# Altium footprint library SamacSys.PcbLib: 8 footprints
Each footprint in its own frame and in the unit in brackets; x right, y up, seen from the top. Pads: shape width x height; smd on the part's side, far side on the other; paste and mask are expansions set on the pad; w line width, h text height; cw(c..) or ccw(c..) is an arc to the next point about the centre after c.
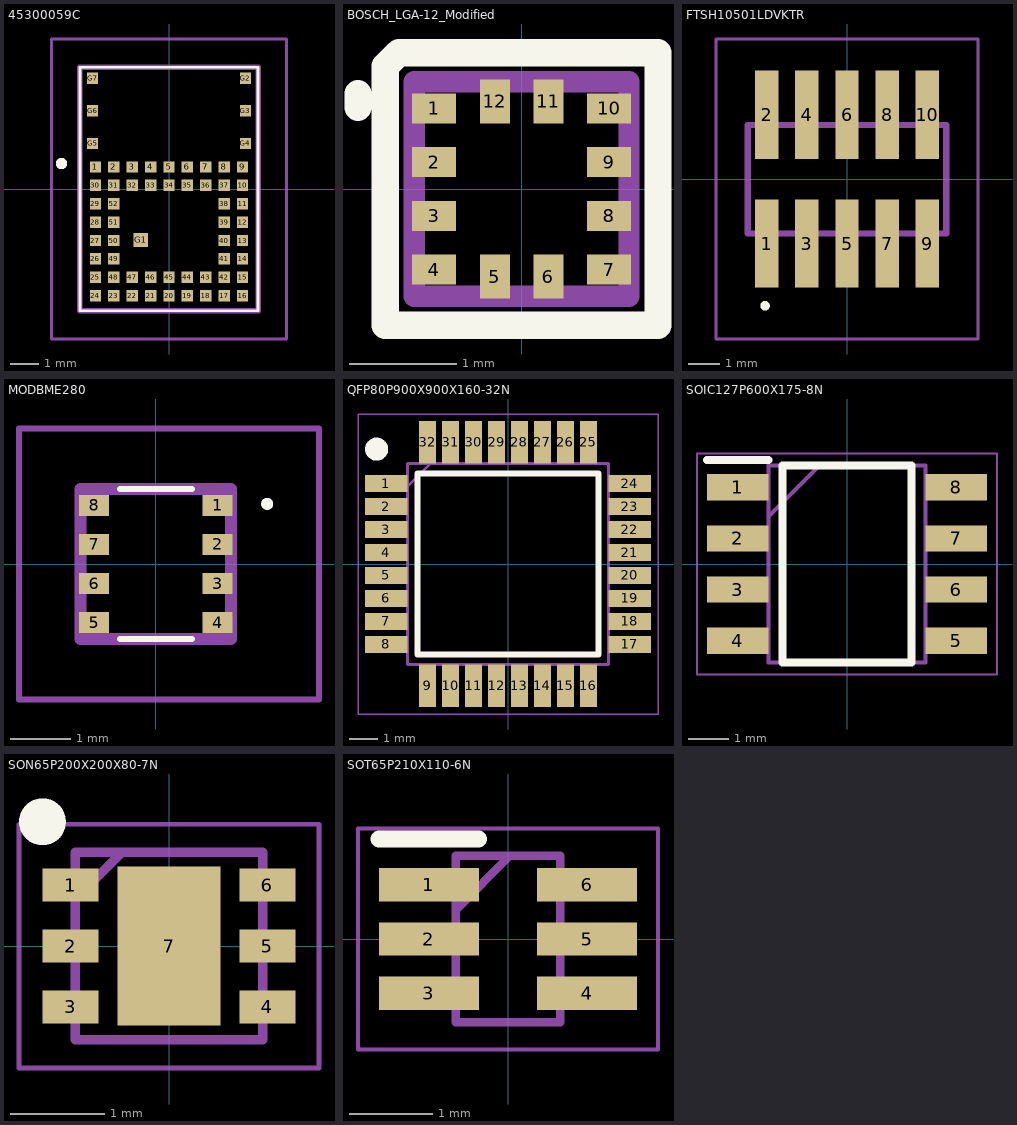
[diagram p0: the footprints below, top view; thin cyan lines are the x and y axes]

## 45300059C [mm]
pads (59):
  rect 0.4x0.4 smd: 1(-2.6,0.78) 2(-1.95,0.78) 3(-1.3,0.78) 4(-0.65,0.78) 5(0,0.78) 6(0.65,0.78) 7(1.3,0.78) 8(1.95,0.78) 9(2.6,0.78) 10(2.6,0.13) 11(2.6,-0.52) 12(2.6,-1.17) 13(2.6,-1.82) 14(2.6,-2.47) 15(2.6,-3.12) 16(2.6,-3.77) 17(1.95,-3.77) 18(1.3,-3.77) 19(0.65,-3.77) 20(0,-3.77) 21(-0.65,-3.77) 22(-1.3,-3.77) 23(-1.95,-3.77) 24(-2.6,-3.77) 25(-2.6,-3.12) 26(-2.6,-2.47) 27(-2.6,-1.82) 28(-2.6,-1.17) 29(-2.6,-0.52) 30(-2.6,0.13) 31(-1.95,0.13) 32(-1.3,0.13) 33(-0.65,0.13) 34(0,0.13) 35(0.65,0.13) 36(1.3,0.13) 37(1.95,0.13) 38(1.95,-0.52) 39(1.95,-1.17) 40(1.95,-1.82) 41(1.95,-2.47) 42(1.95,-3.12) 43(1.3,-3.12) 44(0.65,-3.12) 45(0,-3.12) 46(-0.65,-3.12) 47(-1.3,-3.12) 48(-1.95,-3.12) 49(-1.95,-2.47) 50(-1.95,-1.82) 51(-1.95,-1.17) 52(-1.95,-0.52) G2(2.7,3.91) G3(2.7,2.76) G4(2.7,1.61) G5(-2.7,1.61) G6(-2.7,2.76) G7(-2.7,3.91)
  rect 0.5x0.5 smd: G1(-1,-1.8)
Top Overlay:
  lines w0.1: -3.15,-4.3 -3.15,4.3 3.15,4.3 3.15,-4.3 -3.15,-4.3
  lines w0.2: -3.8,0.8 ccw(c-3.8,0.9) -3.8,1 ccw(c-3.8,0.9) -3.8,0.8
Mechanical 13:
  lines w0.2: -3.15,-4.3 -3.15,4.3 3.15,4.3 3.15,-4.3 -3.15,-4.3
Mechanical 15:
  lines w0.1: -4.15,-5.3 4.15,-5.3 ; -4.15,-5.3 -4.15,5.3 ; -4.15,-5.3 4.15,-5.3 ; -4.15,-5.3 -4.15,5.3 ; -4.15,5.3 4.15,5.3 ; -4.15,5.3 4.15,5.3 ; 4.15,-5.3 4.15,5.3 ; 4.15,-5.3 4.15,5.3
3D body "453-00059C.stp": height 1.7, standoff 0, extent -3.15,-4.3 3.15,4.3

## BOSCH_LGA-12_Modified [mm]
pads (12):
  rect 0.41x0.28 smd: 1(-0.815,0.75) 2(-0.815,0.25) 3(-0.815,-0.25) 4(-0.815,-0.75) 7(0.815,-0.75) 8(0.815,-0.25) 9(0.815,0.25) 10(0.815,0.75)
  rect 0.28x0.41 smd: 5(-0.25,-0.815) 6(0.25,-0.815) 11(0.25,0.815) 12(-0.25,0.815)
Top Overlay:
  lines w0.254: -1.524,0.762 -1.524,0.889 ; -1.27,-1.27 -1.27,1.143 -1.143,1.27 1.27,1.27 1.27,-1.27 -1.27,-1.27
Mechanical 13:
  lines w0.2: -1,-1 1,-1 1,1 -1,1 -1,-1
3D body "BMA456.stp": height 1.02, standoff 0.02, extent -0.873,-1 1.127,1

## FTSH10501LDVKTR [mm]
pads (10):
  rect 0.74x2.79 smd: 1(-2.54,-2.035) 2(-2.54,2.035) 3(-1.27,-2.035) 4(-1.27,2.035) 5(0,-2.035) 6(0,2.035) 7(1.27,-2.035) 8(1.27,2.035) 9(2.54,-2.035) 10(2.54,2.035)
Top Overlay:
  lines w0.2: -2.64,-4 cw(c-2.59,-4) -2.54,-4 cw(c-2.59,-4) -2.64,-4
Mechanical 13:
  lines w0.2: -3.135,-1.715 3.135,-1.715 3.135,1.715 -3.135,1.715 -3.135,-1.715
Mechanical 15:
  lines w0.1: -4.135,-5.05 4.135,-5.05 4.135,4.43 -4.135,4.43 -4.135,-5.05
3D body "FTSH-105-01-L-DV-K-TR.stp": height 6.15, standoff 0, extent -3.135,-3.356 3.135,3.356

## MODBME280 [mm]
pads (8):
  rect 0.5x0.35 smd: 1(1.025,0.975) 2(1.025,0.325) 3(1.025,-0.325) 4(1.025,-0.975) 5(-1.025,-0.975) 6(-1.025,-0.325) 7(-1.025,0.325) 8(-1.025,0.975)
Top Overlay:
  lines w0.1: -0.6,-1.25 0.6,-1.25 ; -0.6,1.25 0.6,1.25 ; 1.8,1 cw(c1.85,1) 1.9,1 cw(c1.85,1) 1.8,1
Mechanical 13:
  lines w0.2: -1.25,-1.25 -1.25,1.25 1.25,1.25 1.25,-1.25 -1.25,-1.25
Mechanical 15:
  lines w0.1: -2.275,-2.25 -2.275,2.25 ; -2.275,-2.25 2.712,-2.25 ; -2.275,-2.25 -2.275,2.25 ; -2.275,-2.25 2.712,-2.25 ; -2.275,2.25 2.712,2.25 ; -2.275,2.25 2.712,2.25 ; 2.712,-2.25 2.712,2.25 ; 2.712,-2.25 2.712,2.25
3D body "MOD-BME280.stp": height 0.93, standoff 0, extent -1.25,-1.25 1.25,1.25

## QFP80P900X900X160-32N [mm]
pads (32):
  rect 1.475x0.6 smd: 1(-4.238,2.8) 2(-4.238,2) 3(-4.238,1.2) 4(-4.238,0.4) 5(-4.238,-0.4) 6(-4.238,-1.2) 7(-4.238,-2) 8(-4.238,-2.8) 17(4.238,-2.8) 18(4.238,-2) 19(4.238,-1.2) 20(4.238,-0.4) 21(4.238,0.4) 22(4.238,1.2) 23(4.238,2) 24(4.238,2.8)
  rect 0.6x1.475 smd: 9(-2.8,-4.238) 10(-2,-4.238) 11(-1.2,-4.238) 12(-0.4,-4.238) 13(0.4,-4.238) 14(1.2,-4.238) 15(2,-4.238) 16(2.8,-4.238) 25(2.8,4.238) 26(2,4.238) 27(1.2,4.238) 28(0.4,4.238) 29(-0.4,4.238) 30(-1.2,4.238) 31(-2,4.238) 32(-2.8,4.238)
Top Overlay:
  circle w0.4: c-4.575,4 r0.2
  lines w0.2: -3.15,-3.15 -3.15,3.15 3.15,3.15 3.15,-3.15 -3.15,-3.15
Mechanical 13:
  lines w0.1: -3.5,2.7 -2.7,3.5 ; -3.5,-3.5 -3.5,3.5 3.5,3.5 3.5,-3.5 -3.5,-3.5
Mechanical 15:
  lines w0.05: -5.225,-5.225 -5.225,5.225 5.225,5.225 5.225,-5.225 -5.225,-5.225
3D body "STM32L010K4T6.stp": height 1.6, standoff 0, extent -4.5,-4.5 4.5,4.5

## SOIC127P600X175-8N [mm]
pads (8):
  rect 1.525x0.65 smd: 1(-2.712,1.905) 2(-2.712,0.635) 3(-2.712,-0.635) 4(-2.712,-1.905) 5(2.712,-1.905) 6(2.712,-0.635) 7(2.712,0.635) 8(2.712,1.905)
Top Overlay:
  lines w0.2: -3.475,2.58 -1.95,2.58 ; -1.6,-2.45 -1.6,2.45 1.6,2.45 1.6,-2.45 -1.6,-2.45
Mechanical 13:
  lines w0.1: -1.95,1.18 -0.68,2.45 ; -1.95,-2.45 -1.95,2.45 1.95,2.45 1.95,-2.45 -1.95,-2.45
Mechanical 15:
  lines w0.05: -3.725,-2.75 -3.725,2.75 3.725,2.75 3.725,-2.75 -3.725,-2.75
3D body "NE555DR.stp": height 1.75, standoff 0, extent -3,-2.45 3,2.45

## SON65P200X200X80-7N [mm]
pads (7):
  rect 0.6x0.35 smd: 1(-1.05,0.65) 2(-1.05,0) 3(-1.05,-0.65) 4(1.05,-0.65) 5(1.05,0) 6(1.05,0.65)
  rect 1.1x1.7 smd: 7(0,0)
Top Overlay:
  circle w0.25: c-1.35,1.325 r0.125
Mechanical 13:
  lines w0.1: -1,0.5 -0.5,1 ; -1,-1 1,-1 1,1 -1,1 -1,-1
Mechanical 15:
  lines w0.05: -1.6,-1.3 1.6,-1.3 1.6,1.3 -1.6,1.3 -1.6,-1.3
3D body "LP5912Q1.5DRVRQ1.stp": height 0.8, standoff 0, extent -1,-1 1,1

## SOT65P210X110-6N [mm]
pads (6):
  rect 1.2x0.4 smd: 1(-0.95,0.65) 2(-0.95,0) 3(-0.95,-0.65) 4(0.95,-0.65) 5(0.95,0) 6(0.95,0.65)
Top Overlay:
  lines w0.2: -1.55,1.2 -0.35,1.2
Mechanical 13:
  lines w0.1: -0.625,0.35 0.025,1 ; -0.625,-1 -0.625,1 0.625,1 0.625,-1 -0.625,-1
Mechanical 15:
  lines w0.05: -1.8,-1.325 -1.8,1.325 1.8,1.325 1.8,-1.325 -1.8,-1.325
3D body "LMV341IDCKR.stp": height 1, standoff 0, extent -1.05,-0.99 1.05,1.01